# EAGLE library part CP2102-USB (library USB_to_UART)
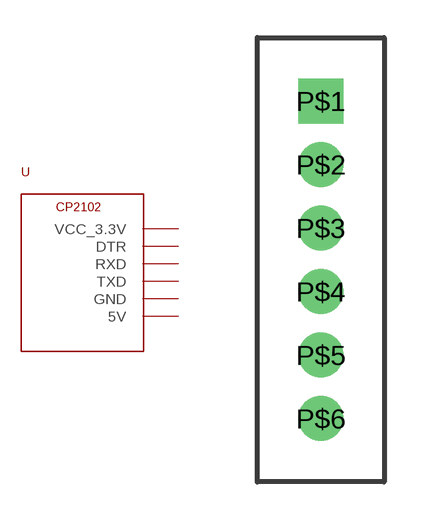
[diagram p0: symbol with the pads of CP2102-6PIN; footprint CP2102-6PIN]

Designator prefix U

## CP2102-USB  [CP2102-6PIN]
P$1  VCC_3.3V
P$2  DTR
P$3  RXD
P$4  TXD
P$5  GND
P$6  5V

## Footprint CP2102-6PIN (pad centres in mm)
drill 1.2 square: P$1 0,0
drill 1.2: P$2 0,-2.54; P$3 0,-5.08; P$4 0,-7.62; P$5 0,-10.16; P$6 0,-12.7